# Altium schematic symbol library Inductors-transformers.SchLib: 116 symbols (part 1 of 2)
Pins are listed as number, name and electrical type; pins without a type are passive.

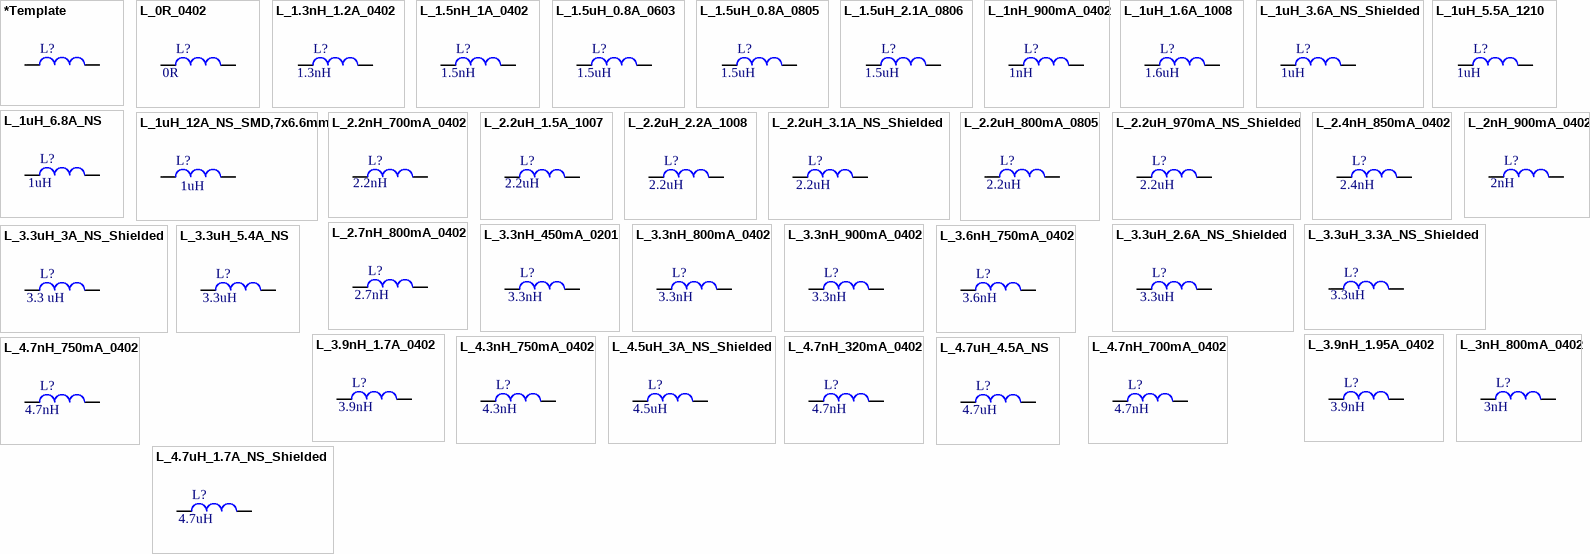
[diagram p0: symbols *Template to L_4.7uH_4.5A_NS]

## *Template
designator L?
Reel Stock: N/A
pins: 1, 2

## L_0R_0402
designator L?, comment 0R
RES SMD 0 OHM JUMPER 1/16W 0402; Manufacturer: Samsung Electro-Mechanics; Manufacturer Part Number: RC1005J000CS; Supplier 1: Digi-Key; Supplier Part Number 1: 1276-3480-1-ND; Reel Stock: N/A; Last modified by: J.Jaramillo; Last modified date: 20240310; ComponentLink1Description: Digi-key; ComponentLink1URL: https://www.digikey.com/product-detail/en/samsung-electro-mechanics/RC1005J000CS/1276-3480-1-ND/3903583; Value: 0R
footprint 0402_RF
footprint 0402
pins: 1, 2

## L_1.3nH_1.2A_0402
designator L?, comment value 1.3nH  (hidden comment: 1.3nH 1.2A)
FIXED IND 1.3NH 1.2A 30 MOHM; Manufacturer: Murata Electronics; Manufacturer Part Number: LQG15WZ1N3S02D; Supplier 1: Digi-key; Supplier Part Number 1: 490-15260-1-ND; Last modified by: J.Jaramillo; Last modified date: 20240310; ComponentLink1Description: Digi-key; ComponentLink1URL: https://www.digikey.com/product-detail/en/murata-electronics-north-america/LQG15WZ1N3S02D/490-15260-1-ND/6799925; Reel Stock: N/A
footprint 0402_RF
footprint 0402
pins: 1, 2

## L_1.5nH_1A_0402
designator L?, comment value 1.5nH  (hidden comment: 1.5nH 1A)
FIXED IND 1.5NH 1A 100 MOHM; Manufacturer: Murata Electronics; Manufacturer Part Number: LQG15HS1N5S02D; Supplier 1: Digi-Key; Supplier Part Number 1: 490-2612-1-ND; Reel Stock: N/A; Last modified by: J.Jaramillo; Last modified date: 20240310; ComponentLink1Description: Digi-Key; ComponentLink1URL: https://www.digikey.com/product-detail/en/murata-electronics-north-america/LQG15HS1N5S02D/490-2612-1-ND/662892
footprint 0402
footprint 0402_RF (0402 footprint for RF tracks with no overlay)
pins: 1, 2

## L_1.5uH_0.8A_0603
designator L?, comment 1.5uH
FIXED IND 1.5UH 800MA 288MOHM SM; Manufacturer: Murata Electronics; Manufacturer Part Number: LQM18PH1R5MFRL; Supplier 1: Digi-Key; Supplier Part Number 1: 490-LQM18PH1R5MFRLCT-ND; Reel Stock: N/A; Last modified by: J.Jaramillo; Last modified date: 20240310; ComponentLink1Description: Digi-Key; ComponentLink1URL: https://www.digikey.com/en/products/detail/murata-electronics/LQM18PH1R5MFRL/11690414; Value: 1.5uH
footprint 0603 (1608 Metric / 20190225 / C-A.Serna.A)
pins: 1, 2

## L_1.5uH_0.8A_0805
designator L?, comment value 1.5uH  (hidden comment: 1.5uH 0.8A)
FIXED IND 1.5UH 800MA 300 MOHM; Manufacturer: TDK Corporation; Manufacturer Part Number: MLP2012V1R5MT0S1; Supplier 1: Digikey; Supplier Part Number 1: 445-15719-1-ND; Reel Stock: N/A; Last modified by: J.Jaramillo; Last modified date: 20240310; ComponentLink1Description: Digikey; ComponentLink1URL: https://www.digikey.com/en/products/detail/tdk-corporation/MLP2012V1R5MT0S1/4327861
footprint 0805 (2012 Metric / 20190225 / C-A.Serna.A)
pins: 1, 2

## L_1.5uH_2.1A_0806
designator L?, comment value 1.5uH  (hidden comment: 1.5uH 2.1A)
FIXED IND 1.5UH 2.1A 85MOHM SMD; Manufacturer: Samsung Electro-Mechanics; Manufacturer Part Number: CIGW201610GH1R5MLE; Supplier 1: Digi-Key; Supplier Part Number 1: 1276-6904-1-ND; Reel Stock: N/A; Last modified by: J.Jaramillo; Last modified date: 20240310; ComponentLink1Description: Digi-Key; ComponentLink1URL: https://www.digikey.com/product-detail/en/samsung-electro-mechanics/CIGW201610GH1R5MLE/1276-6904-1-ND/7041304
footprint 0806
pins: 1, 2

## L_1nH_900mA_0402
designator L?, comment value 1nH  (hidden comment: 1nH 900mA)
FIXED IND 1NH 900MA 80 MOHM SMD; Manufacturer: Taiyo Yuden; Manufacturer Part Number: HK10051N0S-T; Supplier 1: Digi-Key; Supplier Part Number 1: 587-1498-1-ND; Reel Stock: N/A; Last modified by: J.Jaramillo; Last modified date: 20240310; ComponentLink1Description: Digi-Key; ComponentLink1URL: https://www.digikey.com/products/en?keywords=587-1498-1-ND
footprint 0402 (1005 Metric / 20190225 / C-A.Serna.A)
footprint 0402_RF (1005 Metric / 20190225 / C-A.Serna.A)
pins: 1, 2

## L_1uH_1.6A_1008
designator L?, comment value 1.6uH  (hidden comment: 1uH 1.6A)
FIXED IND 1UH 1.6A 55 MOHM SMD; Manufacturer: Murata Electronics; Manufacturer Part Number: LQM2HPN1R0MG0L; Supplier 1: Digi-Key; Supplier Part Number 1: 490-5112-1-ND; Reel Stock: N/A; Last modified by: J.Jaramillo; Last modified date: 20240310; ComponentLink1Description: Digi-Key; ComponentLink1URL: https://www.digikey.com/products/en?keywords=490-5112-1-ND
footprint 1008_N (2520 Metric, 1008 / 20200717 / N-A.Potosi)
pins: 1, 2

## L_1uH_3.6A_NS_Shielded
designator L?, comment value 1uH  (hidden comment: 1uH 3.6A)
FIXED IND 1UH 3.6A 25.2 MOHM SMD; Manufacturer: Taiyo Yuden; Manufacturer Part Number: NRS5020T1R0NMGJ; Supplier 1: Digi-Key; Supplier Part Number 1: 587-2403-1-ND; Reel Stock: N/A; Last modified by: J.Jaramillo; Last modified date: 20240310
footprint L_2SMD_4.9X4.9X2MM_NS (20220909 / E.Naranjo)
pins: 1, 2

## L_1uH_5.5A_1210
designator L?, comment value 1uH  (hidden comment: 1uH 5.5A)
IND,3.2X2.5X1MM,1UH20%,5.5A,SHD; Manufacturer: Bourns Inc.; Manufacturer Part Number: SRP3212-1R0M; Supplier 1: Digi-Key; Supplier Part Number 1: 118-SRP3212-1R0MCT-ND; Reel Stock: N/A; Last modified by: J.Jaramillo; Last modified date: 20240310; ComponentLink1Description: Digi-Key; ComponentLink1URL: https://www.digikey.com/en/products/detail/bourns-inc/SRP3212-1R0M/16394426
footprint 1210 (/20220511/V-A.Patino)
pins: 1, 2

## L_1uH_6.8A_NS
designator L?, comment value 1uH  (hidden comment: 1uH 6.8A)
Fixed Inductors 1uH Unshld 20% 6.8A 9mOhms; Manufacturer: Coilcraft; Manufacturer Part Number: DO3316P-102MLD; Supplier 1: Mouser; Supplier Part Number 1: 994-DO3316P-102MLD; Reel Stock: N/A; Last modified by: J.Jaramillo; Last modified date: 20240310; ComponentLink1Description: Mouser; ComponentLink1URL: https://www.mouser.com/ProductDetail/Coilcraft/DO3316P-102MLD?qs=zCSbvcPd3pZfnBG1obrpOA%3D%3D
footprint L_2SMD_9.4X5.21X12.95MM_NS (20220107 / E.Naranjo)
pins: 1, 2

## L_1uH_12A_NS_SMD,7x6.6mm
designator L?, comment value 1uH  (hidden comment: 1uH 12A)
12A 1uH 7.4mΩ 15A Molded Inductor ±20% SMD,7x6.6mm Fixed Inductors RoHS; Manufacturer: APV; Manufacturer Part Number: APH0630T1R0M; Supplier 1: LCSC; Supplier Part Number 1: C5349700; Reel Stock: N/A; Last modified by: J.Jaramillo; Last modified date: 110426; ComponentLink1Description: Datasheet; ComponentLink1URL: https://www.lcsc.com/datasheet/C5349700.pdf; ComponentLink2Description: LCSC; ComponentLink2URL: https://www.lcsc.com/product-detail/C5349700.html?s_z=n_SRP7030-1R0M
footprint L_2SMD_7x6.6MM_NS (110426 / J.Jaramillo)
pins: 1, 2

## L_2.2nH_700mA_0402
designator L?, comment value 2.2nH  (hidden comment: 2.2nH 700mA)
FIXED IND 2.2NH 700MA 130 MOHM; Manufacturer: Murata Electronics; Manufacturer Part Number: LQG15HH2N2C02D; Supplier 1: Digi-Key; Supplier Part Number 1: 490-15035-1-ND; Reel Stock: N/A; Last modified by: J.Jaramillo; Last modified date: 20240310; ComponentLink1Description: Digi-Key; ComponentLink1URL: https://www.digikey.com/products/en?keywords=587-1503-1-ND
footprint 0402 (1005 Metric / 20190225 / C-A.Serna.A)
footprint 0402_RF (1005 Metric / 20190225 / C-A.Serna.A)
pins: 1, 2

## L_2.2uH_1.5A_1007
designator L?, comment value 2.2uH  (hidden comment: 2.2uH 1.5A)
FIXED IND 2.2UH 1.5A 155MOHM SMD; Manufacturer: Laird-Signal Integrity Products; Manufacturer Part Number: TYA2520102R2M-10; Supplier 1: Digi-key; Supplier Part Number 1: 240-TYA2520102R2M-10CT-ND; Reel Stock: N/A; Last modified by: J.Jaramillo; Last modified date: 20240310; ComponentLink1Description: Digi-Key; ComponentLink1URL: https://www.digikey.com/en/products/detail/laird-signal-integrity-products/TYA2520102R2M-10/12664138
footprint 1007 (2518 Metric / 20210713 / N-A.Potosi)
pins: 1, 2

## L_2.2uH_2.2A_1008
designator L?, comment value 2.2uH  (hidden comment: 2.2uH 2.3A)
FIXED IND 2.2UH 2.3A 97 MOHM; Manufacturer: Murata Electronics; Manufacturer Part Number: DFE252010F-2R2M=P2; Supplier 1: Digi-Key; Supplier Part Number 1: 490-13042-1-ND; Reel Stock: N/A; Last modified by: J.Jaramillo; Last modified date: 20240310; ComponentLink1Description: Digi-Key; ComponentLink1URL: https://www.digikey.com/en/products/detail/murata-electronics/DFE252010F-2R2M%3DP2/5812578?s=N4IgTCBcDaICIDECiYCsYAMBGDCC0YASmALIC8AChALoC%2BQA
footprint 1008 (1008 (2520 Metric))
pins: 1, 2

## L_2.2uH_3.1A_NS_Shielded
designator L?, comment value 2.2uH  (hidden comment: 2.2uH 3.1A)
FIXED IND 2.2UH 3.1A 29 MOHM SMD; Manufacturer: Taiyo Yuden; Manufacturer Part Number: NRS5024T2R2NMGJ; Reel Stock: N/A; Last modified by: J.Jaramillo; Last modified date: 20240310; ComponentLink1Description: Digi-key; ComponentLink1URL: https://www.digikey.com/product-detail/en/taiyo-yuden/NRS5024T2R2NMGJ/587-6102-1-ND/8573092; Supplier 1: Digi-Key; Supplier Part Number 1: 587-6102-1-ND
footprint L_2SMD_4.9X4.9mm_NS (20190516/ V-A.Patino)
pins: 1, 2

## L_2.2uH_800mA_0805
designator L?, comment value 2.2uH  (hidden comment: 2.2uH 800mA)
FIXED IND 2.2UH 800MA 120 MOHM; Manufacturer: TDK Corporation; Manufacturer Part Number: MLZ2012N2R2LT000; Supplier 1: Digi-Key; Supplier Part Number 1: 445-6758-1-ND; Reel Stock: N/A; Last modified by: J.Jaramillo; Last modified date: 20240310; ComponentLink1Description: Digi-Key; ComponentLink1URL: https://www.digikey.com/en/products/detail/tdk-corporation/MLZ2012N2R2LT000/2523496
footprint 0805 (2012 Metric / 20190225 / C-A.Serna.A)
pins: 1, 2

## L_2.2uH_970mA_NS_Shielded
designator L?, comment value 2.2uH  (hidden comment: 2.2uH 970mA)
FIXED IND 2.2UH 970MA 180 MOHM; Manufacturer: Taiyo Yuden; Manufacturer Part Number: NRH2410T2R2MN; Supplier 1: Digi-key; Supplier Part Number 1: 587-2388-1-ND; Reel Stock: N/A; Last modified by: J.Jaramillo; Last modified date: 20240310; ComponentLink1Description: Digi-key; ComponentLink1URL: https://www.digikey.com/en/products/detail/taiyo-yuden/NRH2410T2R2MN/2178907?s=N4IgTCBcDaIKwA4DsBaMBmBCUEYUDkAREAXQF8g
footprint L_2SMD_2.4X2.4MM_NS (/20210324/V-A.Patino)
pins: 1, 2

## L_2.4nH_850mA_0402
designator L?, comment value 2.4nH  (hidden comment: 3.3nH 850mA)
FIXED IND 2.4NH 850M 150 MOHM; Manufacturer: Murata Electronics; Manufacturer Part Number: LQG15HS2N4S02D; Supplier 1: Digi-key; Supplier Part Number 1: 490-8389-1-ND; Last modified by: J.Jaramillo; Last modified date: 20240310; ComponentLink1Description: Digi-key; ComponentLink1URL: https://www.digikey.com/en/products/detail/murata-electronics/LQG15HS2N4S02D/2594219?s=N4IgTCBcDaICwE4AMBaAHAZjQlBGFAcgCIgC6AvkA; Reel Stock: N/A
footprint 0402_RF
footprint 0402
pins: 1, 2

## L_2.7nH_800mA_0402
designator L?, comment value 2.7nH  (hidden comment: 2.7nH 800mA)
FIXED IND 2.7NH 800MA 170 MOHM; Manufacturer: Murata Electronics; Manufacturer Part Number: LQG15HN2N7S02D; Supplier 1: Digi-key; Supplier Part Number 1: 490-1078-1-ND; Last modified by: J.Jaramillo; Last modified date: 20240310; ComponentLink1Description: Digi-key; ComponentLink1URL: https://www.digikey.com/product-detail/en/murata-electronics-north-america/LQG15HN2N7S02D/490-1078-1-ND/584524; Reel Stock: N/A
footprint 0402_RF
footprint 0402
pins: 1, 2

## L_2nH_900mA_0402
designator L?, comment value 2nH  (hidden comment: 2nH 900mA)
FIXED IND 2NH 900MA 100 MOHM SMD; Manufacturer: Murata Electronics; Manufacturer Part Number: LQG15HS2N0S02D; Supplier 1: Digi-key; Supplier Part Number 1: 490-6569-1-ND; Last modified by: J.Jaramillo; Last modified date: 20240310; ComponentLink1Description: Digi-key; ComponentLink1URL: https://www.digikey.com/en/products/detail/murata-electronics/LQG15HS2N0S02D/1795312?s=N4IgTCBcDaICwE4AMBaAbAVjQlBGFAcgCIgC6AvkA; Reel Stock: N/A
footprint 0402_RF
footprint 0402
pins: 1, 2

## L_3.3nH_450mA_0201
designator L?, comment value 3.3nH  (hidden comment: 3.3nH 450mA)
FIXED IND 3.3NH 450MA 240MOHM SM; Manufacturer: Murata Electronics; Manufacturer Part Number: LQP03TQ3N3C02D; Supplier 1: Digi-Key; Supplier Part Number 1: 490-14971-1-ND; Reel Stock: N/A; Last modified by: J.Jaramillo; Last modified date: 20240310; ComponentLink1Description: Digi-Key; ComponentLink1URL: https://www.digikey.com/en/products/detail/murata-electronics/LQP03TQ3N3C02D/6798396?s=N4IgTCBcDaIDIEUAKAGAzAFQWgcmgwimACIgC6AvkA
footprint 0201 (20211215 / E.Naranjo)
pins: 1, 2

## L_3.3nH_800mA_0402
designator L?, comment value 3.3nH  (hidden comment: 3.3nH 800mA)
FIXED IND 3.3NH 800MA 120 MOHM; Manufacturer: Murata Electronics; Manufacturer Part Number: LQG15HN3N3C02D; Supplier 1: Digi-key; Supplier Part Number 1: 490-15083-1-ND; Last modified by: J.Jaramillo; Last modified date: 20240310; ComponentLink1Description: Digi-key; ComponentLink1URL: https://www.digikey.com/product-detail/en/murata-electronics-north-america/LQG15HN3N3C02D/490-15083-1-ND/6799748; Reel Stock: N/A
footprint 0402_RF
footprint 0402
pins: 1, 2

## L_3.3nH_900mA_0402
designator L?, comment value 3.3nH  (hidden comment: 3.3nH 900mA)
FIXED IND 3.3NH 900MA 40 MOHM; Manufacturer: Murata Electronics; Manufacturer Part Number: LQW15AN3N3D10D; Supplier 1: Digi-key; Supplier Part Number 1: 490-6809-1-ND; Reel Stock: N/A; Last modified by: J.Jaramillo; Last modified date: 20240310; ComponentLink1Description: Digi-Key; ComponentLink1URL: https://www.digikey.com/products/en?keywords=490-6809-1-ND
footprint 0402 (1005 Metric / 20190225 / C-A.Serna.A)
footprint 0402_RF (1005 Metric / 20190225 / C-A.Serna.A)
pins: 1, 2

## L_3.3uH_2.6A_NS_Shielded
designator L?, comment value 3.3uH  (hidden comment: 3.3uH 2.6A)
FIXED IND 3.3UH 2.6A 66 MOHM SMD; Manufacturer: Coilcraft; Manufacturer Part Number: LPS5030-332MRC; Supplier 1: Mouser; Supplier Part Number 1: 994-LPS5030-332MRC; Reel Stock: N/A; Last modified by: J.Jaramillo; Last modified date: 20240310; ComponentLink1Description: Mouser; ComponentLink1URL: https://co.mouser.com/ProductDetail/Coilcraft/LPS5030-332MRC?qs=QQJxVsr8EGbgiUlIhLTJKQ%3D%3D
footprint L_2SMD_4.9X4.9mm_NS_2 (/20210217/J-E.Pachon)
pins: 1, 2

## L_3.3uH_3.3A_NS_Shielded
designator L?, comment value 3.3uH  (hidden comment: 3.3uH 3.3A)
FIXED IND 3.3UH 3.3A 27 MOHM SMD; Manufacturer: Taiyo Yuden; Manufacturer Part Number: NRS5040T3R3NMGJ; Reel Stock: N/A; Last modified by: J.Jaramillo; Last modified date: 20240310; ComponentLink1Description: Digi-key; ComponentLink1URL: https://www.digikey.com/product-detail/en/taiyo-yuden/NRS5040T3R3NMGJ/587-5939-1-ND/7675059; Supplier 1: Digi-Key; Supplier Part Number 1: 587-5939-1-ND
footprint L_2SMD_4.9X4.9mm_NS (20190516/ V-A.Patino)
pins: 1, 2

## L_3.3uH_3A_NS_Shielded
designator L?, comment value 3.3 uH  (hidden comment: 3.3uH 3A)
FIXED IND 3.3UH 3A 30 MOHM SMD; Manufacturer: Taiyo Yuden; Manufacturer Part Number: NRS5030T3R3MMGJ; Supplier 1: Digi-Key; Supplier Part Number 1: 587-3459-1-ND; Reel Stock: N/A; Last modified by: J.Jaramillo; Last modified date: 20240310; ComponentLink1Description: Digi-Key; ComponentLink1URL: https://www.digikey.com/en/products/detail/taiyo-yuden/NRS5030T3R3MMGJ/4157847
footprint L_2SMD_4.9x4.9x3.1MM_NS (/20221129/J-A.Sepulveda)
pins: 1, 2

## L_3.3uH_5.4A_NS
designator L?, comment value 3.3uH  (hidden comment: 3.3uH 5.4A)
Fixed Inductors 3.3uH Unshld 20% 5.4A 15mOhms; Manufacturer: Coilcraft; Manufacturer Part Number: DO3316P-332MLD; Supplier 1: Mouser; Supplier Part Number 1: 994-DO3316P-332MLD; Reel Stock: N/A; Last modified by: J.Jaramillo; Last modified date: 20240310; ComponentLink1Description: Mouser; ComponentLink1URL: https://www.mouser.com/ProductDetail/Coilcraft/DO3316P-332MLD?qs=zCSbvcPd3paXXd3ngyA10w%3D%3D
footprint L_2SMD_9.4X5.21X12.95MM_NS (20220107 / E.Naranjo)
pins: 1, 2

## L_3.6nH_750mA_0402
designator L?, comment value 3.6nH  (hidden comment: 3.6nH 750mA)
FIXED IND 3.6NH 750MA 180 MOHM; Manufacturer: Murata Electronics; Manufacturer Part Number: LQG15HS3N6S02D; Supplier 1: Digi-key; Supplier Part Number 1: 490-6571-1-ND; Last modified by: J.Jaramillo; Last modified date: 20240310; ComponentLink1Description: Digi-key; ComponentLink1URL: https://www.digikey.com/products/en?keywords=490-6571-1-ND; Reel Stock: N/A
footprint 0402_RF
footprint 0402
pins: 1, 2

## L_3.9nH_1.7A_0402
designator L?, comment value 3.9nH  (hidden comment: 3.9nH 1.7A)
FIXED IND 3.9NH 1.7A 45 MOHM SMD; Manufacturer: Abracon LLC; Manufacturer Part Number: AISC-0402HP-3N9J-T; Last modified by: J.Jaramillo; Last modified date: 20240310; ComponentLink1Description: Digi-key; ComponentLink1URL: https://www.digikey.com/products/en?keywords=535-12225-1-ND; Reel Stock: N/A; Supplier 1: Digi-Key; Supplier Part Number 1: 535-12225-1-ND
footprint 0402_RF
footprint 0402
pins: 1, 2

## L_3.9nH_1.95A_0402
designator L?  value 3.9nH
FIXED IND 3.9NH 1.95A 30 MOHM SMD; Manufacturer: Murata Electronics; Manufacturer Part Number: LQW15AN3N9G80D; Supplier 1: Digi-Key; Supplier Part Number 1: 490-LQW15AN3N9G80DTR-ND; Reel Stock: N/A; Last modified by: J.Jaramillo; Last modified date: 20240310; ComponentLink1Description: Digi-Key; ComponentLink1URL: https://www.digikey.com/en/products/detail/murata-electronics/LQW15AN3N9G80D/10706478?s=N4IgTCBcDaIDIEUDqBGArAQQHIGYsE4BxADgAYAREAXQF8g
footprint 0402 (1005 Metric / 20190225 / C-A.Serna.A)
footprint 0402_RF (1005 Metric / 20190225 / C-A.Serna.A)
pins: 1, 2

## L_3nH_800mA_0402
designator L?, comment value 3nH  (hidden comment: 3nH 800mA)
FIXED IND 3NH 800MA 125 MOHM SMD; Manufacturer: Murata Electronics; Manufacturer Part Number: LQG15HS3N0S02D; Supplier 1: Digi-key; Supplier Part Number 1: 490-6570-1-ND; Last modified by: J.Jaramillo; Last modified date: 20240310; ComponentLink1Description: Digi-key; ComponentLink1URL: https://www.digikey.com/products/en?keywords=490-6570-1-ND; Reel Stock: N/A
footprint 0402_RF
footprint 0402
pins: 1, 2

## L_4.3nH_750mA_0402
designator L?, comment value 4.3nH  (hidden comment: 4.3nH 750mA)
FIXED IND 4.3NH 750MA 180 MOHM; Manufacturer: Murata Electronics; Manufacturer Part Number: LQG15HS4N3S02D; Supplier 1: Digi-key; Supplier Part Number 1: 490-6572-1-ND; Last modified by: J.Jaramillo; Last modified date: 20240310; ComponentLink1Description: Digi-key; ComponentLink1URL: https://www.digikey.com/products/en?keywords=490-6572-1-ND; Reel Stock: N/A
footprint 0402_RF
footprint 0402
pins: 1, 2

## L_4.5uH_3A_NS_Shielded
designator L?, comment value 4.5uH  (hidden comment: 4.5uH 3A)
FIXED IND 4.5UH 3A 40.3 MOHM SMD; Manufacturer: Taiyo Yuden; Manufacturer Part Number: NR6045T4R5M; Reel Stock: N/A; Last modified by: J.Jaramillo; Last modified date: 20240310; ComponentLink1Description: Digi-key; ComponentLink1URL: https://www.digikey.com/product-detail/en/taiyo-yuden/NR6045T4R5M/587-2079-2-ND/1788968; Supplier Part Number 1: 587-2079-1-ND; Supplier 1: Digi-Key
footprint L_2SMD_6x6MM_NS
pins: 1, 2

## L_4.7nH_320mA_0402
designator L?, comment value 4.7nH  (hidden comment: 4.7nH 320mA)
FIXED IND 4.7NH 320MA 650 MOHM; Manufacturer: Abracon LLC; Manufacturer Part Number: ATFC-0402-4N7B-T; Supplier 1: Digi-Key; Supplier Part Number 1: 535-10381-1-ND; Reel Stock: N/A; Last modified by: J.Jaramillo; Last modified date: 20240310; ComponentLink1Description: Digi-Key; ComponentLink1URL: https://www.digikey.com/products/en?keywords=535-10381-1-ND
footprint 0402 (1005 Metric / 20190225 / C-A.Serna.A)
footprint 0402_RF (1005 Metric / 20190225 / C-A.Serna.A)
pins: 1, 2

## L_4.7nH_700mA_0402
designator L?, comment value 4.7nH  (hidden comment: 4.7nH 700mA)
FIXED IND 4.7NH 700MA 160 MOHM; Manufacturer: Murata Electronics; Manufacturer Part Number: LQG15HS4N7C02D; Supplier 1: Digi-key; Supplier Part Number 1: 490-15126-1-ND; Last modified by: J.Jaramillo; Last modified date: 20240310; ComponentLink1Description: Digi-key; ComponentLink1URL: https://www.digikey.com/product-detail/en/murata-electronics-north-america/LQG15HS4N7C02D/490-15126-1-ND/6799791; Reel Stock: N/A
footprint 0402_RF
footprint 0402
pins: 1, 2

## L_4.7nH_750mA_0402
designator L?, comment value 4.7nH  (hidden comment: 4.7nH 750mA)
FIXED IND 4.7NH 750MA 70 MOHM; Manufacturer: Murata Electronics; Manufacturer Part Number: LQW15AN4N7C00D; Supplier 1: Digi-key; Supplier Part Number 1: 490-1139-1-ND; Reel Stock: N/A; Last modified by: J.Jaramillo; Last modified date: 20240310; ComponentLink1Description: Digi-Key; ComponentLink1URL: https://www.digikey.com/products/en?keywords=490-1139-1-ND
footprint 0402 (1005 Metric / 20190225 / C-A.Serna.A)
footprint 0402_RF (1005 Metric / 20190225 / C-A.Serna.A)
pins: 1, 2

## L_4.7uH_1.7A_NS_Shielded
designator L?, comment value 4.7uH  (hidden comment: 4.7uH 1.7A)
FIXED IND 4.7UH 1.7A 84 MOHM SMD; Manufacturer: Taiyo Yuden; Manufacturer Part Number: NRS4018T4R7MDGJ; Reel Stock: N/A; Last modified by: J.Jaramillo; Last modified date: 20240310; ComponentLink1Description: Digi-key; ComponentLink1URL: https://www.digikey.com/product-detail/en/taiyo-yuden/NRS4018T4R7MDGJ/587-2893-1-ND/2649013; Supplier 1: Digi-Key; Supplier Part Number 1: 587-2893-1-ND
footprint L_2SMD_4X4mm_NS (20190516 / V-A.Patino)
pins: 1, 2

## L_4.7uH_4.5A_NS
designator L?, comment value 4.7uH  (hidden comment: 4.7uH 4.5A)
FIXED IND 4.7UH 4.5A 24.7 MOHM; Manufacturer: Sumida America Components Inc.; Manufacturer Part Number: CDRH8D28NP-4R7NC; Supplier 1: Digi-Key; Supplier Part Number 1: 308-1660-1-ND; Reel Stock: N/A; Last modified by: J.Jaramillo; Last modified date: 20240310; ComponentLink1Description: Digi-Key; ComponentLink1URL: https://www.digikey.com/product-detail/en/sumida-america-components-inc/CDRH8D28NP-4R7NC/308-1660-1-ND/3232435
footprint L_2SMD_8x8mm_NS_KIR01 (/C-A.Serna.A)
pins: 1, 2

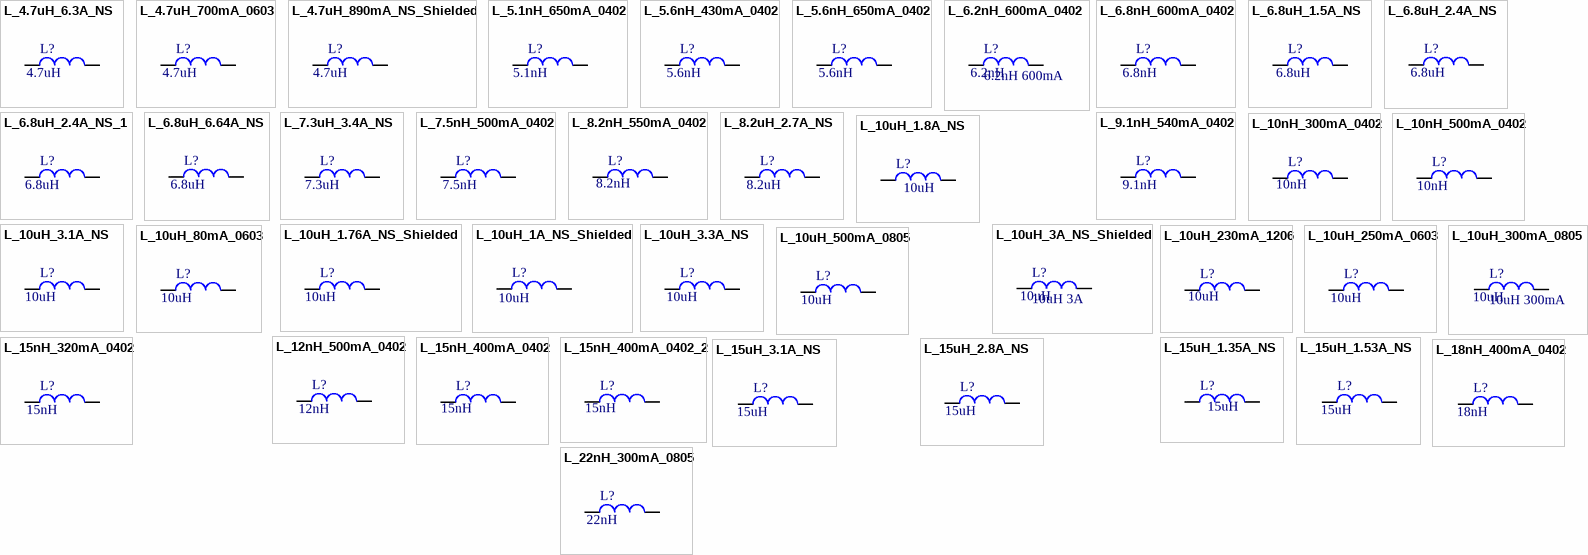
[diagram p1: symbols L_4.7uH_6.3A_NS to L_22nH_300mA_0805]

## L_4.7uH_6.3A_NS
designator L?, comment value 4.7uH  (hidden comment: 4.7uH 6.3A)
FIXED IND 4.7UH 6.3A 18 MOHM SMD; Manufacturer: Murata Electronics; Manufacturer Part Number: 1217AS-H-4R7N=P3; Supplier 1: Digi-Key; Supplier Part Number 1: 490-10791-1-ND; Reel Stock: N/A; Last modified by: J.Jaramillo; Last modified date: 20240310; ComponentLink1Description: Digi-Key; ComponentLink1URL: https://www.digikey.com/en/products/detail/murata-electronics/1217AS-H-4R7N-P3/5271432
footprint L_2SMD_8x8x4.5MM_NS (/20220512/V-A.Patino)
pins: 1, 2

## L_4.7uH_700mA_0603
designator L?, comment value 4.7uH  (hidden comment: 4.7uH 700mA)
FIXED IND 4.7UH 700MA 500MOHM SM; Manufacturer: Shenzhen Sunlord Electronics Co., Ltd.; Manufacturer Part Number: MPH160809S4R7MT; Supplier 1: Digi-Key; Supplier Part Number 1: 3442-MPH160809S4R7MTCT-ND; Reel Stock: N/A; Last modified by: J.Jaramillo; Last modified date: 20240310; ComponentLink1Description: Digi-Key; ComponentLink1URL: https://www.digikey.com/en/products/detail/shenzhen-sunlord-electronics-co-ltd/MPH160809S4R7MT/14120556
footprint 0603 (1608 Metric / 20190225 / C-A.Serna.A)
pins: 1, 2

## L_4.7uH_890mA_NS_Shielded
designator L?, comment value 4.7uH  (hidden comment: 4.7uH 980mA)
FIXED IND 4.7UH 980MA 156MOHM SM; Manufacturer: Taiyo Yuden; Manufacturer Part Number: NR3012T4R7M; Supplier 1: Digi-Key; Supplier Part Number 1: 587-1643-1-ND; Reel Stock: N/A; Last modified by: J.Jaramillo; Last modified date: 20240310; ComponentLink1Description: Digi-Key; ComponentLink1URL: https://www.digikey.com/en/products/detail/taiyo-yuden/NR3012T4R7M/958024?s=N4IgTCBcDaIHICUDMAGAjGAKgFgQdgFkQBdAXyA
footprint L_2SMD_3x3MM_NS (/20221117/J-A.Sepulveda)
pins: 1, 2

## L_5.1nH_650mA_0402
designator L?, comment value 5.1nH  (hidden comment: 5.1nH 650mA)
FIXED IND 5.1NH 650MA 200 MOHM; Manufacturer: Murata Electronics; Manufacturer Part Number: LQG15HS5N1S02D; Supplier 1: Digi-key; Supplier Part Number 1: 490-6573-1-ND; Last modified by: J.Jaramillo; Last modified date: 20240310; ComponentLink1Description: Digi-key; ComponentLink1URL: https://www.digikey.com/products/en?keywords=490-6573-1-ND; Reel Stock: N/A
footprint 0402_RF
footprint 0402
pins: 1, 2

## L_5.6nH_430mA_0402
designator L?, comment value 5.6nH  (hidden comment: 5.6nH 430mA)
FIXED IND 5.6NH 430MA 230 MOHM; Manufacturer: Taiyo Yuden; Manufacturer Part Number: HK10055N6S-T; Supplier 1: Digi-Key; Supplier Part Number 1: 587-1513-1-ND; Reel Stock: N/A; Last modified by: J.Jaramillo; Last modified date: 20240310; ComponentLink1Description: Digi-Key; ComponentLink1URL: https://www.digikey.com/products/en?keywords=587-1513-1-ND
footprint 0402 (1005 Metric / 20190225 / C-A.Serna.A)
footprint 0402_RF (1005 Metric / 20190225 / C-A.Serna.A)
pins: 1, 2

## L_5.6nH_650mA_0402
designator L?, comment value 5.6nH  (hidden comment: 5.6nH 650mA)
FIXED IND 5.6NH 650MA 200 MOHM; Manufacturer: Murata Electronics; Manufacturer Part Number: LQG15HS5N6S02D; Supplier 1: Digi-Key; Supplier Part Number 1: 490-2619-1-ND; Reel Stock: N/A; Last modified by: J.Jaramillo; Last modified date: 20240310; ComponentLink1Description: Digi-Key; ComponentLink1URL: https://www.digikey.com/product-detail/en/murata-electronics-north-america/LQG15HS5N6S02D/490-2619-1-ND/662899
footprint 0402
footprint 0402_RF (0402 footprint for RF tracks with no overlay)
pins: 1, 2

## L_6.2nH_600mA_0402
designator L?, comment 6.2nH 600mA  value 6.2nH
FIXED IND 6.2NH 600MA 220 MOHM; Manufacturer: Murata Electronics; Manufacturer Part Number: LQG15HS6N2S02D; Reel Stock: N/A; Supplier 1: Digi-key; Supplier Part Number 1: 490-2620-1-ND; Last modified by: J.Jaramillo; Last modified date: 20240310; ComponentLink1Description: Digi-key; ComponentLink1URL: https://www.digikey.com/products/en?keywords=490-2620-1-ND
footprint 0402_RF
footprint 0402
pins: 1, 2

## L_6.8nH_600mA_0402
designator L?, comment value 6.8nH  (hidden comment: 6.8nH 600mA)
FIXED IND 6.8NH 600MA 210 MOHM; Manufacturer: Murata Electronics; Manufacturer Part Number: LQG15HN6N8H02D; Supplier 1: Digi-key; Supplier Part Number 1: 490-15094-1-ND; Last modified by: J.Jaramillo; Last modified date: 20240310; ComponentLink1Description: Digi-key; ComponentLink1URL: https://www.digikey.com/product-detail/en/murata-electronics-north-america/LQG15HN6N8H02D/490-15094-1-ND/6799759; Reel Stock: N/A
footprint 0402_RF
footprint 0402
pins: 1, 2

## L_6.8uH_1.5A_NS
designator L?, comment 6.8uH
FIXED IND 6.8UH 1.5A 85MOHM SMD; Manufacturer: Shenzhen Sunlord Electronics Co., Ltd.; Manufacturer Part Number: SWPA4026S6R8MT; Supplier 1: Digi-Key; Supplier Part Number 1: 3442-SWPA4026S6R8MTTR-ND; Reel Stock: N/A; Last modified by: J.Jaramillo; Last modified date: 20240310; ComponentLink1Description: Digi-Key; ComponentLink1URL: https://www.digikey.com/en/products/detail/shenzhen-sunlord-electronics-co-ltd/SWPA4026S6R8MT/14117780?s=N4IgTCBcDaIMoHUAKBBALABjANjtgSgBwCyAKiALoC%2BQA; Value: 6.8uH
footprint L_2SMD_4X4MM_NS_4 (/20210810/J-E.Pachon)
pins: 1, 2

## L_6.8uH_2.4A_NS
designator L?, comment 6.8uH
FIXED IND 6.8UH 2.4A 160MOHM SMD; Manufacturer: Laird-Signal Integrity Products; Manufacturer Part Number: TYA40206R8M-10; Supplier 1: Digi-Key; Supplier Part Number 1: 240-TYA40206R8M-10CT-ND; Reel Stock: N/A; Last modified by: J.Jaramillo; Last modified date: 20240310; ComponentLink1Description: Digi-Key; ComponentLink1URL: https://www.digikey.com/en/products/detail/laird-signal-integrity-products/TYA40206R8M-10/12649689; Value: 6.8uH
footprint L_2SMD_4X4MM_NS_3 (/20210803/J-E.Pachon)
pins: 1, 2

## L_6.8uH_2.4A_NS_1
designator L?, comment value 6.8uH  (hidden comment: 6.8uH 2.4A)
FIXED IND 6.8UH 2.4A 175MOHM SMD; Manufacturer: Shenzhen Sunlord Electronics Co., Ltd.; Manufacturer Part Number: MWSA0402S-6R8MT; Supplier 1: Digi-Key; Supplier Part Number 1: 3442-MWSA0402S-6R8MTCT-ND; Reel Stock: N/A; Last modified by: J.Jaramillo; Last modified date: 20240310
footprint L_2SMD_4.4X4.2MM_NS (/20210818/J-E.Pachon)
pins: 1, 2

## L_6.8uH_6.64A_NS
designator L?, comment value 6.8uH  (hidden comment: 6.8uH 6.64A)
FIXED IND 6.8UH 6.64A 12.3 MOHM; Manufacturer: Eaton - Electronics Division; Manufacturer Part Number: DR125-6R8-R; Supplier 1: Digi-Key; Supplier Part Number 1: 513-1530-1-ND; Reel Stock: N/A; Last modified by: J.Jaramillo; Last modified date: 20240310; ComponentLink1Description: Digi-Key; ComponentLink1URL: https://www.digikey.com/en/products/detail/eaton-electronics-division/DR125-6R8-R/667158
footprint L_2SMD_12.5x12.5*6MM_NS (/20220425/V-A.Patino)
pins: 1, 2

## L_7.3uH_3.4A_NS
designator L?, comment value 7.3uH  (hidden comment: 7.3uH 3.4A)
FIXED IND 7.3UH 3.4A 39 MOHM SMD; Manufacturer: Sumida America Components Inc.; Manufacturer Part Number: CDRH8D28NP-7R3NC; Supplier 1: Digi-Key; Supplier Part Number 1: 308-1661-1-ND; Reel Stock: N/A; Last modified by: J.Jaramillo; Last modified date: 20240310; ComponentLink1Description: Digi-Key; ComponentLink1URL: https://www.digikey.com/product-detail/en/sumida-america-components-inc/CDRH8D28NP-7R3NC/308-1661-1-ND/3232436
footprint L_2SMD_8x8mm_NS_KIR01 (/C-A.Serna.A)
pins: 1, 2

## L_7.5nH_500mA_0402
designator L?, comment value 7.5nH  (hidden comment: 7.5nH 500mA)
FIXED IND 7.5NH 500MA 240 MOHM; Manufacturer: Murata Electronics; Manufacturer Part Number: LQG15HN7N5H02D; Supplier 1: Digi-key; Supplier Part Number 1: 490-15095-1-ND; Last modified by: J.Jaramillo; Last modified date: 20240310; ComponentLink1Description: Digi-key; ComponentLink1URL: https://www.digikey.com/product-detail/en/murata-electronics-north-america/LQG15HN7N5H02D/490-15095-1-ND/6799760; Reel Stock: N/A
footprint 0402_RF
footprint 0402
pins: 1, 2

## L_8.2nH_550mA_0402
designator L?, comment value 8.2nH  (hidden comment: 8.2nH  550mA)
FIXED IND 8.2NH 550MA 240 MOHM; Manufacturer: Murata Electronics; Manufacturer Part Number: LQG15HS8N2J02D; Supplier 1: Digi-key; Supplier Part Number 1: 490-2622-1-ND; Last modified by: J.Jaramillo; Last modified date: 20240310; ComponentLink1Description: Digi-key; ComponentLink1URL: https://www.digikey.com/products/en?keywords=490-2622-1-ND; Reel Stock: N/A
footprint 0402_RF
footprint 0402
pins: 1, 2

## L_8.2uH_2.7A_NS
designator L?, comment value 8.2uH  (hidden comment: 8.2uH 2.7A)
FIXED IND 8.2UH 2.7A 55 MOHM SMD; Manufacturer: Bourns Inc.; Manufacturer Part Number: SRN6045-8R2Y; Supplier 1: Digi-Key; Supplier Part Number 1: SRN6045-8R2YCT-ND; Reel Stock: N/A; Last modified by: J.Jaramillo; Last modified date: 20240310; ComponentLink1Description: Digi-Key; ComponentLink1URL: https://www.digikey.com/en/products/detail/bourns-inc/SRN6045-8R2Y/2756119?s=N4IgTCBcDaIMoCUByA2ADAFgKwFoAcCYAmiALoC%2BQA
footprint L_2SMD_6x6MM_NS (20190327 /V-A.Patino)
pins: 1, 2

## L_9.1nH_540mA_0402
designator L?, comment value 9.1nH  (hidden comment: 9.1nH  540mA)
FIXED IND 9.1NH 540MA 140MOHM SM; Manufacturer: Murata Electronics; Manufacturer Part Number: LQW15AN9N1J00D; Supplier 1: Digi-key; Supplier Part Number 1: 490-1145-1-ND; Last modified by: J.Jaramillo; Last modified date: 20240310; ComponentLink1Description: Digi-key; ComponentLink1URL: https://www.digikey.com/en/products/detail/murata-electronics/LQW15AN9N1J00D/584354; Reel Stock: N/A
footprint 0402_RF
footprint 0402
pins: 1, 2

## L_10nH_300mA_0402
designator L?, comment value 10nH  (hidden comment: 10nH 300mA)
FIXED IND 10NH 300MA 260 MOHM; Manufacturer: Chillisin Elec; Manufacturer Part Number: CLH1005T-10NJ-S; Supplier 1: LCSC; Supplier Part Number 1: C108247; Reel Stock: N/A; Last modified by: J.Jaramillo; Last modified date: 20240310; ComponentLink1Description: LCSC; ComponentLink1URL: https://lcsc.com/product-detail/Inductors-SMD_Chilisin-Elec-CLH1005T-10NJ-S_C108247.html
footprint 0402 (1005 Metric / 20190225 / C-A.Serna.A)
footprint 0402_RF (1005 Metric / 20190225 / C-A.Serna.A)
pins: 1, 2

## L_10nH_500mA_0402
designator L?, comment value 10nH  (hidden comment: 10nH 500mA)
FIXED IND 10NH 500MA 260 MOHM; Manufacturer: Murata Electronics; Manufacturer Part Number: LQG15HS10NJ02D; Supplier 1: Digi-key; Supplier Part Number 1: 490-2623-1-ND; Last modified by: J.Jaramillo; Last modified date: 20240310; ComponentLink1Description: Digi-key; ComponentLink1URL: https://www.digikey.com/products/en?keywords=490-2623-1-ND; Reel Stock: N/A
footprint 0402_RF
footprint 0402
pins: 1, 2

## L_10uH_1.8A_NS
designator L?, comment value 10uH  (hidden comment: 10uH 1.8A)
SMD INDUCTOR 10uH 1.8A; Reel Stock: N/A; Last modified by: J.Jaramillo; Last modified date: 20240513
footprint L_2SMD_6x6x4.5MM_NS (20190909 /C-D Viveros)
pins: 1, 2

## L_10uH_1.76A_NS_Shielded
designator L?, comment value 10uH  (hidden comment: 10uH 1.76A)
FIXED IND 10UH 1.76A 89 MOHM; Manufacturer: Wurth Electronics Inc.; Manufacturer Part Number: 74404043100A; Last modified by: J.Jaramillo; Last modified date: 20240310; ComponentLink1Description: Digi-key; ComponentLink1URL: https://www.digikey.com/product-detail/en/wurth-electronics-inc/74404043100A/732-10757-1-ND/6598191; Reel Stock: N/A; Supplier 1: Digi-Key; Supplier Part Number 1: 732-10757-1-ND
footprint L_2SMD_4X4mm_NS_2 (20190516 / V-A.Patino)
pins: 1, 2

## L_10uH_1A_NS_Shielded
designator L?, comment value 10uH  (hidden comment: 10uH 1A)
FIXED IND 10UH 1A 128.3 MOHM SMD; Manufacturer: Sumida America Components Inc.; Manufacturer Part Number: CDRH4D28NP-100NC; Supplier 1: Digi-key; Supplier Part Number 1: 308-2303-1-ND; Reel Stock: N/A; Last modified by: J.Jaramillo; Last modified date: 20240310; ComponentLink1Description: Digikey; ComponentLink1URL: https://www.digikey.com/en/products/detail/sumida-america-components-inc/CDRH4D28NP-100NC/1059478?s=N4IgTCBcDaIMwAYAcBaMi4oIwoHIBEQBdAXyA
footprint L_2SMD_4.7X4.7MM_NS (/20210105/J-E.Pachon)
pins: 1, 2

## L_10uH_3.1A_NS
designator L?, comment value 10uH  (hidden comment: 10uH 3.1A)
FIXED IND 10UH 3.1A 44.2 MOHM; Manufacturer: Taiyo Yuden; Manufacturer Part Number: NR8040T100M; Supplier 1: Digi-Key; Supplier Part Number 1: 587-2001-1-ND; Reel Stock: N/A; Last modified by: J.Jaramillo; Last modified date: 20240310; ComponentLink1Description: Digi-Key; ComponentLink1URL: https://www.digikey.com/products/en?keywords=587-2001-1-ND
footprint L_2SMD_8x8mm_NS (NonStandard / 20190226 / C-A.Serna.A)
pins: 1, 2

## L_10uH_3.3A_NS
designator L?, comment value 10uH  (hidden comment: 10uH 3.3A)
FIXED IND 10UH 3.3A 38 MOHM SMD; Manufacturer: Shenzhen Sunlord Electronics Co., Ltd.; Manufacturer Part Number: SWPA8040S100MT; Supplier 1: Digi-Key; Supplier Part Number 1: 3442-SWPA8040S100MTCT-ND; Reel Stock: N/A; Last modified by: J.Jaramillo; Last modified date: 20240310
footprint L_2SMD_8X8X4MM_NS (20220818 / E.Naranjo)
pins: 1, 2

## L_10uH_3A_NS_Shielded
designator L?, comment 10uH 3A  value 10uH
FIXED IND 10UH 3A 42.9 MOHM SMD; Manufacturer: Taiyo Yuden; Manufacturer Part Number: NRS8030T100MJGJ; Supplier 1: Digi-key; Supplier Part Number 1: 587-2960-1-ND; Reel Stock: N/A; Last modified by: J.Jaramillo; Last modified date: 20240310; ComponentLink1Description: Digi-key; ComponentLink1URL: https://www.digikey.com/en/products/detail/taiyo-yuden/NRS8030T100MJGJ/2665998
footprint L_2SMD_8x8x3MM_NS (/20220520/F-A.Ospina)
pins: 1, 2

## L_10uH_80mA_0603
designator L?, comment value 10uH  (hidden comment: 10uH 80mA)
FIXED IND 10UH 80MA 360 MOHM SMD; Manufacturer: Taiyo Yuden; Manufacturer Part Number: LBMF1608T100K; Supplier 1: Digi-key; Supplier Part Number 1: 587-1714-1-ND; Last modified by: J.Jaramillo; Last modified date: 20240310; ComponentLink1Description: Digi-key; ComponentLink1URL: https://www.digikey.com/products/en?keywords=587-1714-1-ND; Reel Stock: N/A
footprint 0603
pins: 1, 2

## L_10uH_230mA_1206
designator L?, comment value 10uH  (hidden comment: 10uH 230mA)
FIXED IND 10UH 230MA 1.69OHM SMD; Manufacturer: Murata Electronics; Manufacturer Part Number: LQH31CN100K03L; Last modified by: J.Jaramillo; Last modified date: 20240310; ComponentLink1Description: Digi-key; ComponentLink1URL: https://www.digikey.com/en/products/detail/murata-electronics/LQH31CN100K03L/2594279?s=N4IgTCBcDaICwE4AMBaAbAVgBxZQRhQDkAREAXQF8g; Reel Stock: N/A; Supplier 1: Digi-Key; Supplier Part Number 1: 490-6588-1-ND
footprint 1206 (/20220628/F-A.Ospina)
pins: 1, 2

## L_10uH_250mA_0603
designator L?, comment value 10uH  (hidden comment: 10uH 250mA)
FIXED IND 10UH 250MA 1.05 OHM; Manufacturer: TDK Corporation; Manufacturer Part Number: MLZ1608M100WT000; Last modified by: J.Jaramillo; Last modified date: 20240310; ComponentLink1Description: Digi-key; ComponentLink1URL: https://www.digikey.com/products/en?keywords=445-6389-1-ND; Reel Stock: N/A; Supplier 1: Digi-Key; Supplier Part Number 1: 445-6389-1-ND
footprint 0603
pins: 1, 2

## L_10uH_300mA_0805
designator L?, comment 10uH 300mA  value 10uH
FIXED IND 10UH 300MA 650MOHM SMD; Manufacturer: Taiyo Yuden; Manufacturer Part Number: CB2012T100KRV; Supplier 1: Digi-key; Supplier Part Number 1: 587-3675-1-ND; Reel Stock: N/A; Last modified by: J.Jaramillo; Last modified date: 20240310; ComponentLink1Description: Digi-key; ComponentLink1URL: https://www.digikey.com/en/products/detail/taiyo-yuden/CB2012T100KRV/4694014?s=N4IgTCBcDaIMICEwAYCMYAqrnINICUA1EAXQF8g
footprint 0805 (2012 Metric / 20190225 / C-A.Serna.A)
pins: 1, 2

## L_10uH_500mA_0805
designator L?, comment value 10uH  (hidden comment: 10uH 500mA)
FIXED IND 10UH 500MA 300 MOHM; Manufacturer: TDK Corporation; Manufacturer Part Number: MLZ2012N100LT000; Supplier 1: Digi-key; Supplier Part Number 1: 445-6762-1-ND; Last modified by: J.Jaramillo; Last modified date: 20240310; ComponentLink1Description: Digi-key; ComponentLink1URL: https://www.digikey.com/products/en?keywords=445-6762-1-ND; Reel Stock: N/A
footprint 0805
pins: 1, 2

## L_12nH_500mA_0402
designator L?, comment value 12nH  (hidden comment: 12nH 500mA)
FIXED IND 12NH 500MA 280 MOHM; Manufacturer: Murata Electronics; Manufacturer Part Number: LQG15HS12NJ02D; Supplier 1: Digi-Key; Supplier Part Number 1: 490-2624-1-ND; Reel Stock: N/A; Last modified by: J.Jaramillo; Last modified date: 20240310; ComponentLink1Description: Digi-Key; ComponentLink1URL: https://www.digikey.com/product-detail/en/murata-electronics-north-america/LQG15HS12NJ02D/490-2624-1-ND/662904
footprint 0402
footprint 0402_RF (0402 footprint for RF tracks with no overlay)
pins: 1, 2

## L_15nH_320mA_0402
designator L?, comment value 15nH  (hidden comment: 15nH 320mA)
FIXED IND 15NH 320MA 460MOHM SMD; Manufacturer: Taiyo Yuden; Manufacturer Part Number: HK100515NJ-T; Supplier 1: Digi-Key; Supplier Part Number 1: 587-1521-1-ND; Reel Stock: N/A; Last modified by: J.Jaramillo; Last modified date: 20240310; ComponentLink1Description: Digi-Key; ComponentLink1URL: https://www.digikey.com/en/products/detail/taiyo-yuden/HK100515NJ-T/957881
footprint 0402 (1005 Metric / 20190225 / C-A.Serna.A)
footprint 0402_RF (1005 Metric / 20190225 / C-A.Serna.A)
pins: 1, 2

## L_15nH_400mA_0402
designator L?, comment value 15nH  (hidden comment: 15nH 400mA)
FIXED IND 15NH 400MA 450 MOHM; Manufacturer: Murata Electronics; Manufacturer Part Number: LQG15HN15NH02D; Supplier 1: Digi-key; Supplier Part Number 1: 490-15065-1-ND; Last modified by: J.Jaramillo; Last modified date: 20240310; ComponentLink1Description: Digi-key; ComponentLink1URL: https://www.digikey.com/products/en?keywords=490-15065-1-ND; Reel Stock: N/A
footprint 0402_RF
footprint 0402
pins: 1, 2

## L_15nH_400mA_0402_2
designator L?, comment value 15nH  (hidden comment: 15nH 400mA)
FIXED IND 15NH 400MA 460MOHM SMD; Manufacturer: Murata Electronics; Manufacturer Part Number: LQG15HN15NJ02D; Supplier 1: Digi-Key; Supplier Part Number 1: 490-1087-1-ND; Reel Stock: N/A; Last modified by: J.Jaramillo; Last modified date: 20240310; ComponentLink1Description: Digi-Key; ComponentLink1URL: https://www.digikey.com/en/products/detail/murata-electronics/LQG15HN15NJ02D/584296
footprint 0402 (1005 Metric / 20190225 / C-A.Serna.A)
pins: 1, 2

## L_15uH_1.35A_NS
designator L?, comment value 15uH  (hidden comment: 15uH 1.35A)
FIXED INDUCTOR 15UH 1.35A; Manufacturer: Sumida; Manufacturer Part Number: CD54-15UH; Supplier 1: Didacticas Electrónicas; Supplier Part Number 1: CD54-15UH; Reel Stock: N/A; Last modified by: J.Jaramillo; Last modified date: 20240513; ComponentLink1Description: Didacticas Electrónica; ComponentLink1URL: https://www.didacticaselectronicas.com/index.php/componentes-pasivos/inductores-y-ferritas/cd54-15uh-detail; ComponentLink2Description: Datasheet; ComponentLink2URL: https://drive.google.com/file/d/1bh4vx7WL8Vxt5Xm2ysE-OHVcJ2EzeTq9/view
footprint L_2SMD_5.8X5.2MM_NS (20220804/J-E.Pachon)
pins: 1, 2

## L_15uH_1.53A_NS
designator L?, comment value 15uH  (hidden comment: 15uH 1.53A)
FIXED IND 15UH 1.53A 140MOHM SMD; Manufacturer: Würth Elektronik; Manufacturer Part Number: 744774115; Supplier 1: Digi-Key; Supplier Part Number 1: 732-4147-1-ND; Reel Stock: N/A; Last modified by: J.Jaramillo; Last modified date: 20240310; ComponentLink1Description: Digi-Key; ComponentLink1URL: https://www.digikey.com/en/products/detail/w%C3%BCrth-elektronik/744774115/3476717?s=N4IgTCBcDaIOwBYF0QRlQVhAXQL5A
footprint L_2SMD_5.8X5.2MM_NS (20220804/J-E.Pachon)
pins: 1, 2

## L_15uH_2.8A_NS
designator L?, comment value 15uH  (hidden comment: 15uH 2.8A)
FIXED IND 15UH 2.8A 77MOHM SMD; Manufacturer: TDK Corporation; Manufacturer Part Number: VLS6045AF-150M; Reel Stock: N/A; Last modified by: J.Jaramillo; Last modified date: 20240310; ComponentLink1Description: Digi-key; ComponentLink1URL: https://www.digikey.com/product-detail/en/tdk-corporation/VLS6045AF-150M/445-180839-1-ND/9596894; Supplier 1: Digi-Key; Supplier Part Number 1: 445-180839-1-ND
footprint L_2SMD_6x6x4.5MM_NS (20190909 /C-D Viveros)
pins: 1, 2

## L_15uH_3.1A_NS
designator L?, comment value 15uH  (hidden comment: 15uH 3.1A)
FIXED IND 15UH 3.1A 40 MOHM SMD; Manufacturer: EPCOS - TDK Electronics; Manufacturer Part Number: B82476A1153M000; Supplier 1: Digi-Key; Supplier Part Number 1: 495-76644-1-ND; Reel Stock: N/A; Last modified by: J.Jaramillo; Last modified date: 20240310; ComponentLink1Description: Digi-Key; ComponentLink1URL: https://www.digikey.com/en/products/detail/epcos-tdk-electronics/B82476A1153M000/3915654?s=N4IgTCBcDaIEIA4wBYDsA2AggRmwVgGYBZABjJAF0BfIA
footprint L_2SMD_12.95X9.40X5.08MM_NS (20230220/ N-A.Potosi)
pins: 1, 2

## L_18nH_400mA_0402
designator L?, comment value 18nH  (hidden comment: 18nH 400mA)
FIXED IND 18NH 400MA 360 MOHM; Manufacturer: Murata Electronics; Manufacturer Part Number: LQG15HS18NJ02D; Supplier 1: Digi-key; Supplier Part Number 1: 490-2626-1-ND; Last modified by: J.Jaramillo; Last modified date: 20240310; ComponentLink1Description: Digi-key; ComponentLink1URL: https://www.digikey.com/products/en?keywords=490-2626-1-ND; Reel Stock: N/A
footprint 0402_RF
footprint 0402
pins: 1, 2

## L_22nH_300mA_0805
designator L?, comment value 22nH  (hidden comment: 22nH 300mA)
FIXED IND 22NH 300MA 500 MOHM; Manufacturer: Abracon LLC; Manufacturer Part Number: AIMC-0805-22NJ-T; Supplier 1: Digi-key; Supplier Part Number 1: 535-11560-1-ND; Last modified by: J.Jaramillo; Last modified date: 20240310; Reel Stock: N/A; ComponentLink1Description: Digi-Key; ComponentLink1URL: https://www.digikey.com/en/products/detail/abracon-llc/AIMC-0805-22NJ-T/2662928?s=N4IgTCBcDaIKwGY4FoCMq4DYAMbkDkAREAXQF8g
footprint 0805 (2012 Metric / 20190225 / C-A.Serna.A)
pins: 1, 2

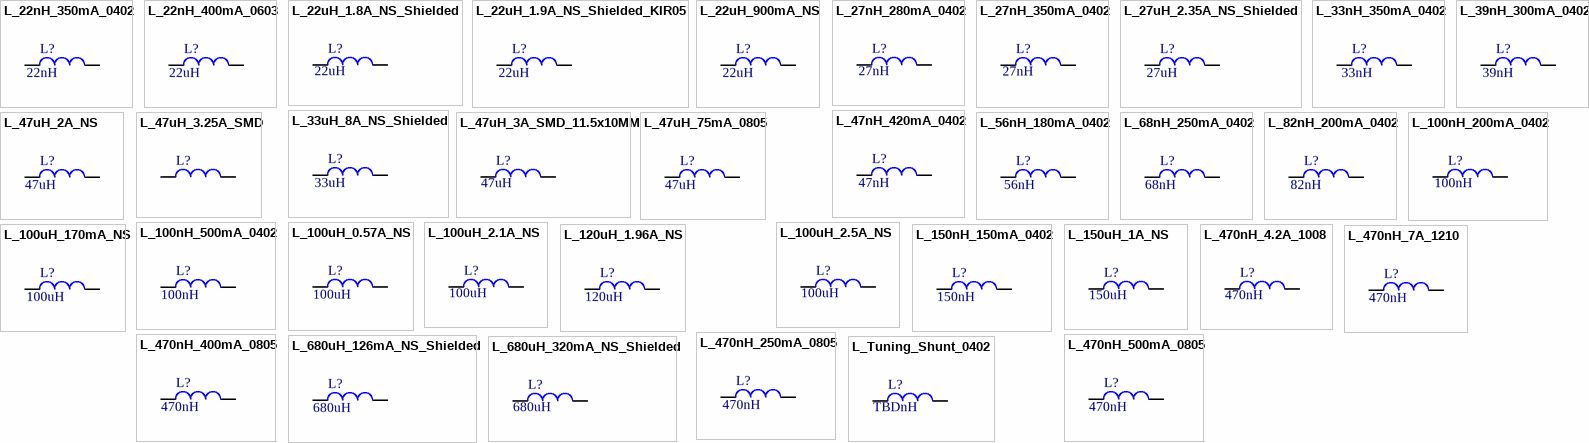
[diagram p2: symbols L_22nH_350mA_0402 to L_Tuning_Shunt_0402]

## L_22nH_350mA_0402
designator L?, comment value 22nH  (hidden comment: 22nH 350mA)
FIXED IND 22NH 350MA 420 MOHM; Manufacturer: Murata Electronics; Manufacturer Part Number: LQG15HS22NJ02D; Supplier 1: Digi-key; Supplier Part Number 1: 490-2627-1-ND; Last modified by: J.Jaramillo; Last modified date: 20240310; ComponentLink1Description: Digi-key; ComponentLink1URL: https://www.digikey.com/products/en?keywords=490-2627-1-ND; Reel Stock: N/A
footprint 0402_RF
footprint 0402
pins: 1, 2

## L_22nH_400mA_0603
designator L?, comment value 22uH  (hidden comment: 22nH 400mA)
FIXED IND 22NH 400MA 600 MOHM; Manufacturer: Würth Elektronik; Manufacturer Part Number: 744786122A; Last modified by: J.Jaramillo; Last modified date: 20240310; ComponentLink1Description: Digi-key; ComponentLink1URL: https://www.digikey.com/product-detail/en/würth-elektronik/744786122A/732-6267-1-ND/5087230; Reel Stock: N/A; Supplier 1: Digi-Key; Supplier Part Number 1: 732-6267-1-ND
footprint 0603
pins: 1, 2

## L_22uH_1.8A_NS_Shielded
designator L?, comment value 22uH  (hidden comment: 22uH 1.8A)
FIXED IND 22UH 1.8A 89 MOHM SMD; Manufacturer: Abracon LLC; Manufacturer Part Number: ASPI-6045S-220M-T; Reel Stock: N/A; Last modified by: J.Jaramillo; Last modified date: 20240310; Supplier Part Number 1: ASPI-6045S-220M-TCT-ND; Supplier 1: Digi-Key; ComponentLink1Description: Digi-Key; ComponentLink1URL: https://www.digikey.com/product-detail/en/abracon-llc/ASPI-6045S-220M-T/ASPI-6045S-220M-TCT-ND/3060385
footprint L_2SMD_6x6MM_NS (20190327 /V-A.Patino)
pins: 1, 2

## L_22uH_1.9A_NS_Shielded_KIR05
designator L?, comment value 22uH  (hidden comment: 22uH 1.9A)
FIXED IND 22UH 1.9A 91 MOHM SMD; Manufacturer: Taiyo Yuden; Manufacturer Part Number: NRS8030T220MJGJ; Reel Stock: N/A; Last modified by: J.Jaramillo; Last modified date: 20240310; Supplier Part Number 1: 587-2964-1-ND; Supplier 1: Digi-Key; ComponentLink1Description: Digi-Key; ComponentLink1URL: https://www.digikey.com/products/en?keywords=587-2964-1-ND
footprint L_2SMD_8X8MM_NS_KIR05 (NONSTD/20200715/N-A.Potosi)
pins: 1, 2

## L_22uH_900mA_NS
designator L?, comment value 22uH  (hidden comment: 22uH 900mA)
FIXED IND 22UH 900MA 348MOHM SMD; Manufacturer Part Number: SRN4018-220M; Manufacturer: Bourns Inc.; Supplier Part Number 1: SRN4018-220MCT-ND; Supplier 1: Digi-Key; Last modified date: 20240310; Reel Stock: N/A; Last modified by: J.Jaramillo; ComponentLink1Description: Digi-Key; ComponentLink1URL: https://www.digikey.com/products/en?keywords=SRN4018-220MCT-ND
footprint L_2SMD_4x4MM_NS_SRN4018 (20200718 / C-D Viveros)
pins: 1, 2

## L_27nH_280mA_0402
designator L?, comment value 27nH  (hidden comment: 27nH 350mA)
FIXED IND 27NH 280MA 520 MOHM; Manufacturer: Murata Electronics; Manufacturer Part Number: LQW15AN27NJ00D; Supplier 1: Digi-key; Supplier Part Number 1: 490-1151-1-ND; Reel Stock: N/A; Last modified by: J.Jaramillo; Last modified date: 20240310; ComponentLink1Description: Digi-Key; ComponentLink1URL: https://www.digikey.com/products/en?keywords=490-1151-1-ND
footprint 0402 (1005 Metric / 20190225 / C-A.Serna.A)
footprint 0402_RF (1005 Metric / 20190225 / C-A.Serna.A)
pins: 1, 2

## L_27nH_350mA_0402
designator L?, comment value 27nH  (hidden comment: 27nH 350mA)
FIXED IND 27NH 350MA 460 MOHM; Manufacturer: Murata Electronics; Manufacturer Part Number: LQG15HS27NJ02D; Supplier 1: Digi-key; Supplier Part Number 1: 490-2628-1-ND; Last modified by: J.Jaramillo; Last modified date: 20240310; ComponentLink1Description: Digi-key; ComponentLink1URL: https://www.digikey.com/products/en?keywords=490-2628-1-ND; Reel Stock: N/A
footprint 0402_RF
footprint 0402
pins: 1, 2

## L_27uH_2.35A_NS_Shielded
designator L?, comment value 27uH  (hidden comment: 27uH 2.35A)
Fixed Inductors 27uH Shld 20% 2.35A 89mOhms; Manufacturer: Coilcraft; Manufacturer Part Number: MSS1038-273MLC; Supplier 1: Mouser; Supplier Part Number 1: 994-MSS1038-273MLC; Reel Stock: N/A; Last modified by: J.Jaramillo; Last modified date: 20240310; ComponentLink1Description: Mouser; ComponentLink1URL: https://www.mouser.com/ProductDetail/Coilcraft/MSS1038-273MLC?qs=zCSbvcPd3pbipA3kg5j%252BzQ%3D%3D
footprint L_2SMD_10.2x10x3.8mm_NS (NonStandard / 20220902/ J-A.Sepulveda)
pins: 1, 2

## L_33nH_350mA_0402
designator L?, comment value 33nH  (hidden comment: 33nH 350mA)
FIXED IND 33NH 350MA 580 MOHM; Manufacturer: Murata Electronics; Manufacturer Part Number: LQG15HS33NJ02D; Supplier 1: Digi-Key; Supplier Part Number 1: 490-2629-1-ND; Reel Stock: N/A; Last modified by: J.Jaramillo; Last modified date: 20240310; ComponentLink1Description: Digi-Key; ComponentLink1URL: https://www.digikey.com/product-detail/en/murata-electronics-north-america/LQG15HS33NJ02D/490-2629-1-ND/662909
footprint 0402
footprint 0402_RF (0402 footprint for RF tracks with no overlay)
pins: 1, 2

## L_33uH_8A_NS_Shielded
designator L?, comment value 33uH  (hidden comment: 33uH 8A)
FIXED IND 33UH 8A 56 MOHM SMD; Manufacturer: Bourns Inc.; Manufacturer Part Number: SRP1265C-330M; Supplier 1: Digi-Key; Supplier Part Number 1: 118-SRP1265C-330MCT-ND; Reel Stock: N/A; Last modified by: J.Jaramillo; Last modified date: 20240310; ComponentLink1Description: Digi-Key; ComponentLink1URL: https://www.digikey.com/en/products/detail/bourns-inc/SRP1265C-330M/11633701
footprint L_2SMD_12.6x13.5MM_NS (/20220422/V-A.Patino)
pins: 1, 2

## L_39nH_300mA_0402
designator L?, comment value 39nH  (hidden comment: 39nH 300mA)
FIXED IND 39NH 300MA 650 MOHM; Manufacturer: Murata Electronics; Manufacturer Part Number: LQG15HS39NJ02D; Supplier 1: Digi-key; Supplier Part Number 1: 490-2630-1-ND; Last modified by: J.Jaramillo; Last modified date: 20240310; ComponentLink1Description: Digi-key; ComponentLink1URL: https://www.digikey.com/products/en?keywords=490-2630-1-ND; Reel Stock: N/A
footprint 0402_RF
footprint 0402
pins: 1, 2

## L_47nH_420mA_0402
designator L?, comment value 47nH  (hidden comment: 47nH 420mA)
FIXED IND 47NH 420MA 580MOHM SMD; Manufacturer: Würth Elektronik; Manufacturer Part Number: 744916147; Supplier 1: Digi-Key; Supplier Part Number 1: 732-11252-1-ND; Reel Stock: N/A; Last modified by: J.Jaramillo; Last modified date: 20240310; ComponentLink1Description: Digi-Key; ComponentLink1URL: https://www.digikey.com/en/products/detail/w%C3%BCrth-elektronik/744916147/6833590
footprint 0402 (1005 Metric / 20190225 / C-A.Serna.A)
footprint 0402_RF (1005 Metric / 20190225 / C-A.Serna.A)
pins: 1, 2